# Altium schematic symbol library MB963.SCHLIB: 52 symbols
Pins are listed as number, name and electrical type; pins without a type are passive.

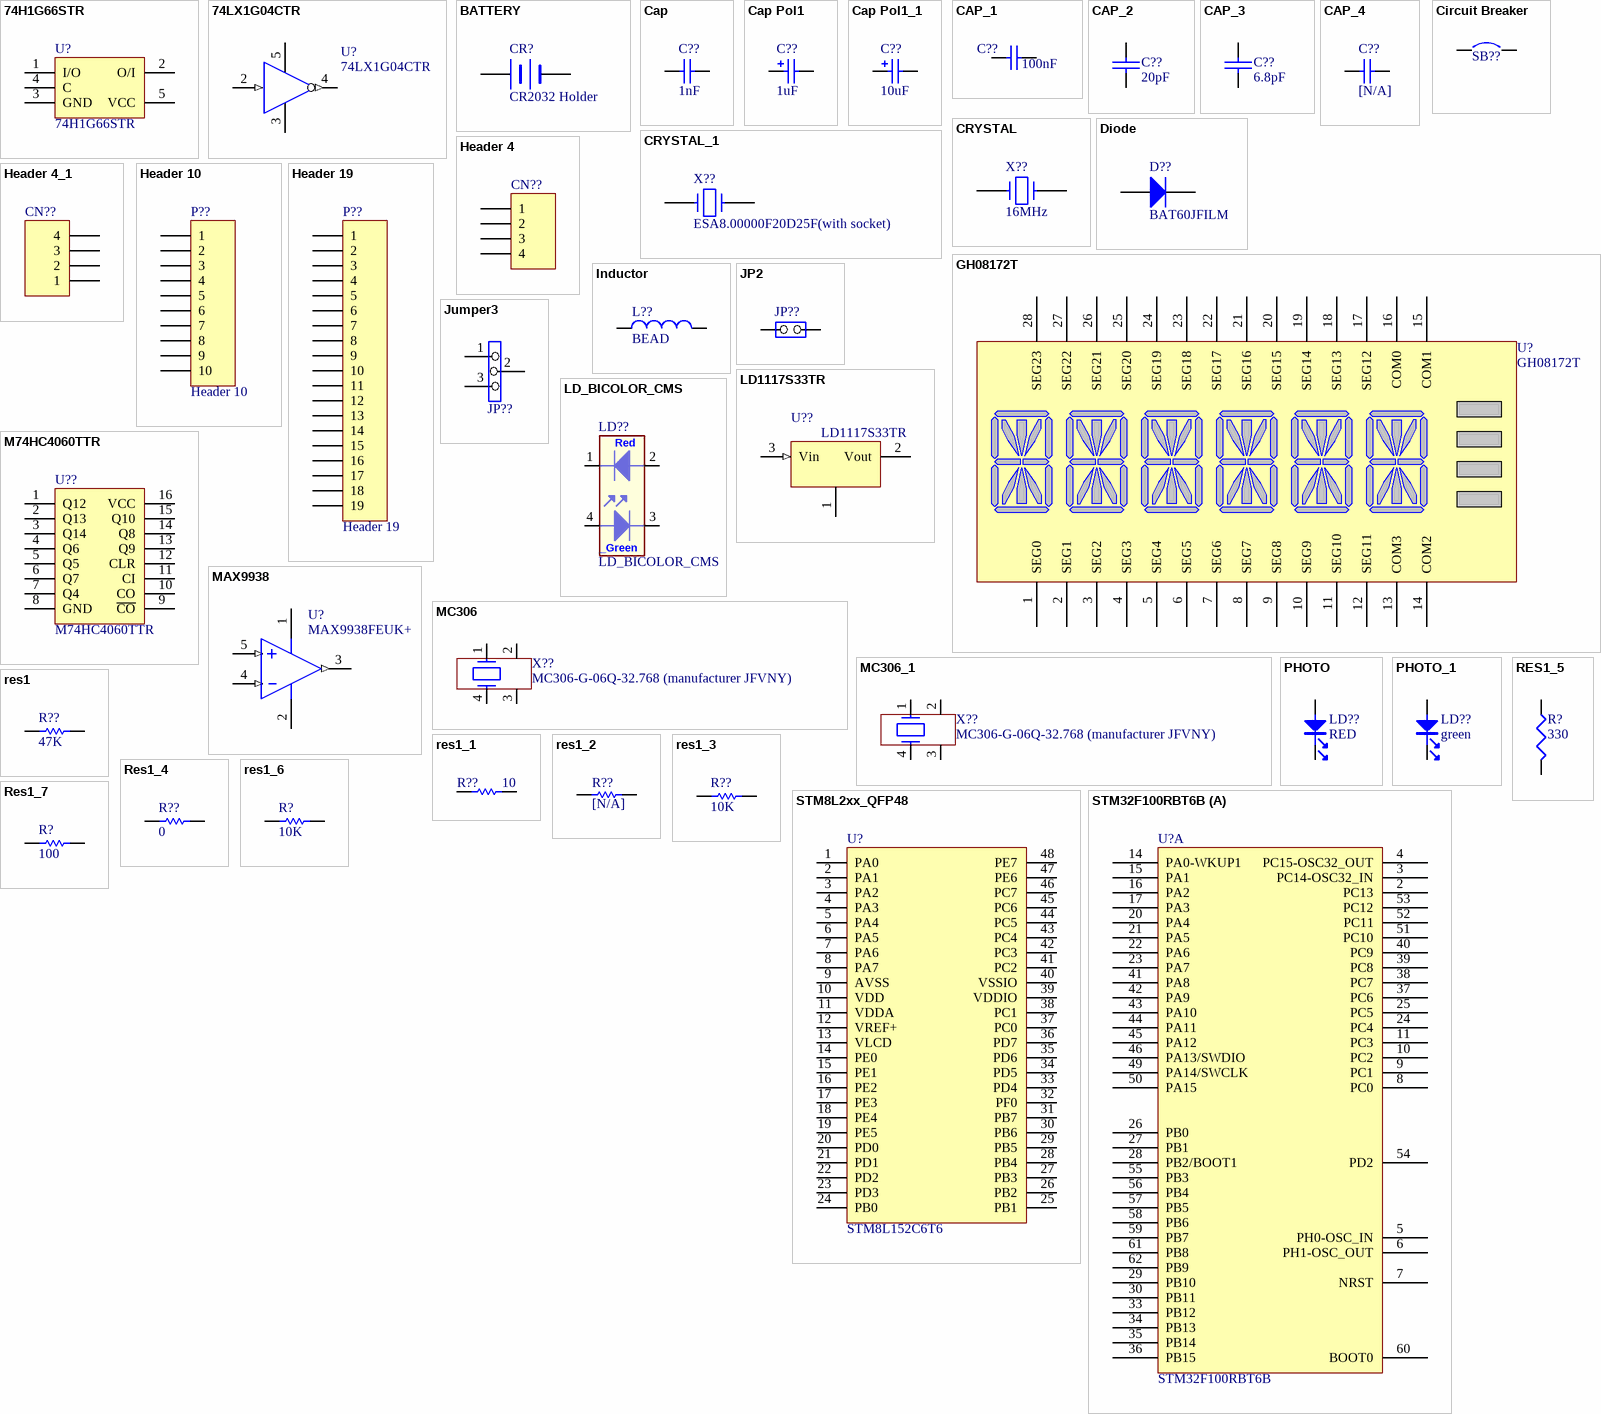
[diagram p0: symbols 74H1G66STR to STM32F100RBT6B]

## 74H1G66STR
designator U?
Provided: ST
footprint Model Name (Footprint not found)
footprint SOT-23-5L
pins: 1 I/O, 2 O/I, 3 GND, 4 C, 5 VCC

## 74LX1G04CTR
designator U?
Provided: ST
footprint Model Name (Footprint not found)
footprint SOT323-5L
pins: 1 NC hidden, 2 1A (in), 3 GND, 4 1Y (out), 5 VCC

## BATTERY
designator CR?, comment CR2032 Holder
Battery; Manufacturer_1: Lotes; Manufacturer_Part_1: KB7410AP2L; Description: CR2032 socket and battery, KB7410AP2L; Footprint: CR2032/SMT; Dristrib: http://www.bestbattery.co.kr/lotes/lotes.htm
footprint BATT-2.4V160mAH
footprint SOCKET BATTERY AAA DOUBLE
footprint SOCKET BATTERY CR2032 (TRAV)
footprint SOCKET BATTERY CR2032 CMS (1)
footprint SOCKET BATTERY CR2032 CMS (2)
footprint SOCKET BATTERY CR2032 CMS (Keystone)
footprint SOCKET BATTERY LR61/PP3/9V
footprint SOCKET BATTERY LR61/PP3/9V (2)
footprint SOCKET BATTERY AA SIMPLE
pins: 1 +, 2 -
2 alternate drawings of the same symbol

## Cap
designator C??, comment 1nF
Capacitor; Published: 8-Jun-2000; Revision: July-2002: Re-released for DXP Platform.; Publisher: Altium Limited; Value: 1nF
simulation model CAP (Capacitor)
signal-integrity model Cap
footprint 0603 (Footprint not found)
footprint 0603C
footprint 0402C
pins: 1, 2

## Cap Pol1
designator C??, comment 1uF
Polarized Capacitor (Radial); Published: 8-Jun-2000; Revision: July-2002: Re-released for DXP Platform.; Publisher: Altium Limited; Value: 1uF
simulation model CAP (Capacitor)
signal-integrity model C200M
footprint 3528 (Footprint not found)
footprint TAN-B
footprint 0603C
pins: 1, 2

## Cap Pol1_1
designator C??, comment 10uF
Polarized Capacitor (Radial); Published: 8-Jun-2000; Revision: July-2002: Re-released for DXP Platform.; Publisher: Altium Limited; Value: 10uF
simulation model CAP (Capacitor)
signal-integrity model C200M
footprint 3528 (Footprint not found)
footprint TAN-B
footprint CASE-A
pins: 1, 2

## CAP_1
designator C??, comment 100nF
Capacitor; Value: 100pF; Published: 8-Jun-2000; Revision: July-2002: Re-released for DXP Platform.; Publisher: Altium Limited
footprint RAD-0.3 (Capacitor; 2 Leads)
simulation model CAP (Capacitor)
signal-integrity model Cap
footprint CAPR5.08-7.8X3.2
footprint CAPR2.54-5.1X3.2
footprint 0603
footprint 0603P
footprint 0603C
footprint 0402C
pins: 1, 2

## CAP_2
designator C??, comment 20pF
Capacitor
footprint 0603 (Footprint not found)
footprint 0603C
pins: 1, 2
2 alternate drawings of the same symbol

## CAP_3
designator C??, comment 6.8pF
Capacitor
footprint 0603 (Footprint not found)
footprint 0603C
pins: 1, 2

## CAP_4
designator C??, comment [N/A]
Capacitor; Value: 100pF; Fitted: NO; Published: 8-Jun-2000; Revision: July-2002: Re-released for DXP Platform.; Publisher: Altium Limited
footprint RAD-0.3 (Capacitor; 2 Leads)
simulation model CAP (Capacitor)
signal-integrity model Cap
footprint CAPR5.08-7.8X3.2
footprint CAPR2.54-5.1X3.2
footprint 0603C
pins: 1, 2

## Circuit Breaker
designator SB??  (value not drawn)
Solder: YES; Published: 24-Mar-1999; Revision: July-2002: Re-released for DXP Platform.; Publisher: Altium Limited
footprint SPST-2 (Circuit Breaker; 2 Leads)
footprint JP2_SMD
pins: 1, 2

## CRYSTAL
designator X??, comment 16MHz
Crystal; Fitted: NO
footprint XTAL1 (Footprint not found)
footprint XTAL_SOCKET
pins: 1, 2
2 alternate drawings of the same symbol

## CRYSTAL_1
designator X??, comment ESA8.00000F20D25F(with socket)
Crystal
footprint XTAL1 (Footprint not found)
footprint HC-49AAAAA
pins: 1, 2
2 alternate drawings of the same symbol

## Diode
designator D??, comment BAT60JFILM
Default Diode; Code - JEDEC: DO-214-AB; Provided: ST; Published: 8-Jun-2000; Revision: July-2002: Re-released for DXP Platform.; Publisher: Altium Limited
footprint DSO-C2/X3.3 (DO-214-AB/SMC; 2 C-Bend Leads; Body 7.9 x 5.9 mm, inc. leads (LxW))
simulation model DIODE (Diode)
signal-integrity model Diode
footprint SOD323/A
pins: 1 A, 2 K

## GH08172T
designator U?
footprint DIP28 (Footprint not found)
pins: 1 SEG0, 2 SEG1, 3 SEG2, 4 SEG3, 5 SEG4, 6 SEG5, 7 SEG6, 8 SEG7, 9 SEG8, 10 SEG9, 11 SEG10, 12 SEG11, 13 COM3, 14 COM2, 15 COM1, 16 COM0, 17 SEG12, 18 SEG13, 19 SEG14, 20 SEG15, 21 SEG16, 22 SEG17, 23 SEG18, 24 SEG19, 25 SEG20, 26 SEG21, 27 SEG22, 28 SEG23

## Header 4
designator CN??  (value not drawn)
Header, 4-Pin; Revision: 17-Jul-2002: Re-released for DXP Platform.; Publisher: Altium Limited
signal-integrity model Connector
footprint Header 4 (Footprint not found)
pins: 1, 2, 3, 4

## Header 4_1
designator CN??, comment Header 4  (value not drawn)
Header, 4-Pin; Revision: 17-Jul-2002: Re-released for DXP Platform.; Publisher: Altium Limited
signal-integrity model Connector
footprint Header 4 (Footprint not found)
pins: 1, 2, 3, 4

## Header 10
designator P??
Header, 10-Pin; LatestRevisionDate: 17-Jul-2002; LatestRevisionNote: Re-released for DXP Platform.; Publisher: Altium Limited
footprint HDR1X10 (Connector; Header; 10 Position)
signal-integrity model Connector
pins: 1, 2, 3, 4, 5, 6, 7, 8, 9, 10

## Header 19
designator P??
Header, 19-Pin; LatestRevisionDate: 17-Jul-2002; LatestRevisionNote: Re-released for DXP Platform.; Publisher: Altium Limited
footprint HDR1X19 (Connector; Header; 19 Position)
signal-integrity model Connector
pins: 1, 2, 3, 4, 5, 6, 7, 8, 9, 10, 11, 12, 13, 14, 15, 16, 17, 18, 19

## Inductor
designator L??, comment BEAD
Inductor; Value: 100uH; Published: 8-Jun-2000; Revision: July-2002: Re-released for DXP Platform.; Publisher: Altium Limited
footprint 0603 (Footprint not found)
footprint 0603L
pins: 1, 2

## JP2
designator JP??
footprint SIP2/2.54
pins: 1 COMMON, 2 NO

## Jumper3
designator JP??
footprint SIP3 (Footprint not found)
pins: 1, 2, 3

## LD1117S33TR
designator U??
Provided: ST
footprint SOT-223
pins: 1, 2 Vout (power), 3 Vin (in)
2 alternate drawings of the same symbol

## LD_BICOLOR_CMS
designator LD??
Bicolor Led; Manuf_Part_1: HSMF-A201-A00J1; Manuf_1: Avago Technologies; Ref St: xxxxxx; cap_dec: ----; Distrib: RADIOSPARES; Footprint: HSMF-A201; support: ----
footprint HSMF-A201 (Footprint not found)
pins: 1, 2, 3, 4
text: Red; _Green

## M74HC4060TTR
designator U??
Provided: ST
footprint TSSOP (Footprint not found)
footprint TSSOP16 (Footprint not found)
pins: 1 Q12, 2 Q13, 3 Q14, 4 Q6, 5 Q5, 6 Q7, 7 Q4, 8 GND, 9 ~{CO}, 10 CO, 11 CI, 12 CLR, 13 Q9, 14 Q8, 15 Q10, 16 VCC

## MAX9938
designator U?, comment MAX9938FEUK+
Precision Current-Sense Amplifier
footprint Model Name (Footprint not found)
footprint SOT-23-5L
pins: 1 GND (power), 2 GND (power), 3 OUT (out), 4 Vm (in), 5 Vp (in)

## MC306
designator X??, comment MC306-G-06Q-32.768 (manufacturer JFVNY)
footprint SM8 (Footprint not found)
pins: 1, 2, 3, 4

## MC306_1
designator X??, comment MC306-G-06Q-32.768 (manufacturer JFVNY)
footprint MC306-CRYSTAL
pins: 1, 2, 3, 4

## PHOTO
designator LD??, comment RED
footprint D0603
footprint 0603D
pins: 1, 2
2 alternate drawings of the same symbol

## PHOTO_1
designator LD??, comment green
footprint D0603
footprint LED0603
pins: 1, 2
2 alternate drawings of the same symbol

## res1
designator R??, comment 47K
Resistor; Published: 8-Jun-2000; Revision: July-2002: Re-released for DXP Platform.; Publisher: Altium Limited; Value: 47K
footprint AXIAL-0.3 (Resistor; 2 Leads)
footprint 0805
footprint 0603
footprint 0402R
pins: 1, 2
1 alternate drawing of the same symbol

## res1_1
designator R??, comment 10
Resistor; Published: 8-Jun-2000; Revision: July-2002: Re-released for DXP Platform.; Publisher: Altium Limited; Value: 10
footprint AXIAL-0.3 (Resistor; 2 Leads)
footprint 0805
footprint 0603
footprint 0402R
footprint 0603R (Footprint not found)
pins: 1, 2
1 alternate drawing of the same symbol

## res1_2
designator R??, comment [N/A]
Resistor; Value: 1K; Fitted: NO; Published: 8-Jun-2000; Revision: July-2002: Re-released for DXP Platform.; Publisher: Altium Limited
footprint AXIAL-0.3 (Resistor; 2 Leads)
simulation model RESISTOR (Resistor)
signal-integrity model Res
footprint 0603 (Footprint not found)
footprint 0603R
pins: 1, 2
1 alternate drawing of the same symbol

## res1_3
designator R??, comment 10K
Resistor; Value: 1K; Published: 8-Jun-2000; Revision: July-2002: Re-released for DXP Platform.; Publisher: Altium Limited
footprint AXIAL-0.3 (Resistor; 2 Leads)
simulation model RESISTOR (Resistor)
signal-integrity model Res
footprint 0603
footprint 0603R
footprint 0402R
pins: 1, 2
1 alternate drawing of the same symbol

## Res1_4
designator R??, comment 0
Resistor; Value: 1K; Published: 8-Jun-2000; Revision: July-2002: Re-released for DXP Platform.; Publisher: Altium Limited
footprint AXIAL-0.3 (Resistor; 2 Leads)
simulation model RESISTOR (Resistor)
signal-integrity model Res
footprint 0603
footprint 0805
footprint 0603R
pins: 1, 2
1 alternate drawing of the same symbol

## RES1_5
designator R?, comment 330
footprint 0603
footprint 0402R
footprint 0603R
pins: 1, 2

## res1_6
designator R?, comment 10K
Resistor; Value: 1K; Published: 8-Jun-2000; Revision: July-2002: Re-released for DXP Platform.; Publisher: Altium Limited
footprint AXIAL-0.3 (Resistor; 2 Leads)
simulation model RESISTOR (Resistor)
signal-integrity model Res
footprint 0603R
pins: 1, 2
1 alternate drawing of the same symbol

## Res1_7
designator R?, comment 100
Resistor; Value: 1K; Published: 8-Jun-2000; Revision: July-2002: Re-released for DXP Platform.; Publisher: Altium Limited
footprint AXIAL-0.3 (Resistor; 2 Leads)
simulation model RESISTOR (Resistor)
signal-integrity model Res
footprint 0805
footprint 0603R
pins: 1, 2
1 alternate drawing of the same symbol

## STM8L2xx_QFP48
designator U?, comment STM8L152C6T6
Provided: ST
footprint QFP48 (Footprint not found)
footprint LQFP48
pins: 1 PA0, 2 PA1, 3 PA2, 4 PA3, 5 PA4, 6 PA5, 7 PA6, 8 PA7, 9 AVSS, 10 VDD, 11 VDDA, 12 VREF+, 13 VLCD, 14 PE0, 15 PE1, 16 PE2, 17 PE3, 18 PE4, 19 PE5, 20 PD0, 21 PD1, 22 PD2, 23 PD3, 24 PB0, 25 PB1, 26 PB2, 27 PB3, 28 PB4, 29 PB5, 30 PB6, 31 PB7, 32 PF0, 33 PD4, 34 PD5, 35 PD6, 36 PD7, 37 PC0, 38 PC1, 39 VDDIO, 40 VSSIO, 41 PC2, 42 PC3, 43 PC4, 44 PC5, 45 PC6, 46 PC7, 47 PE6, 48 PE7

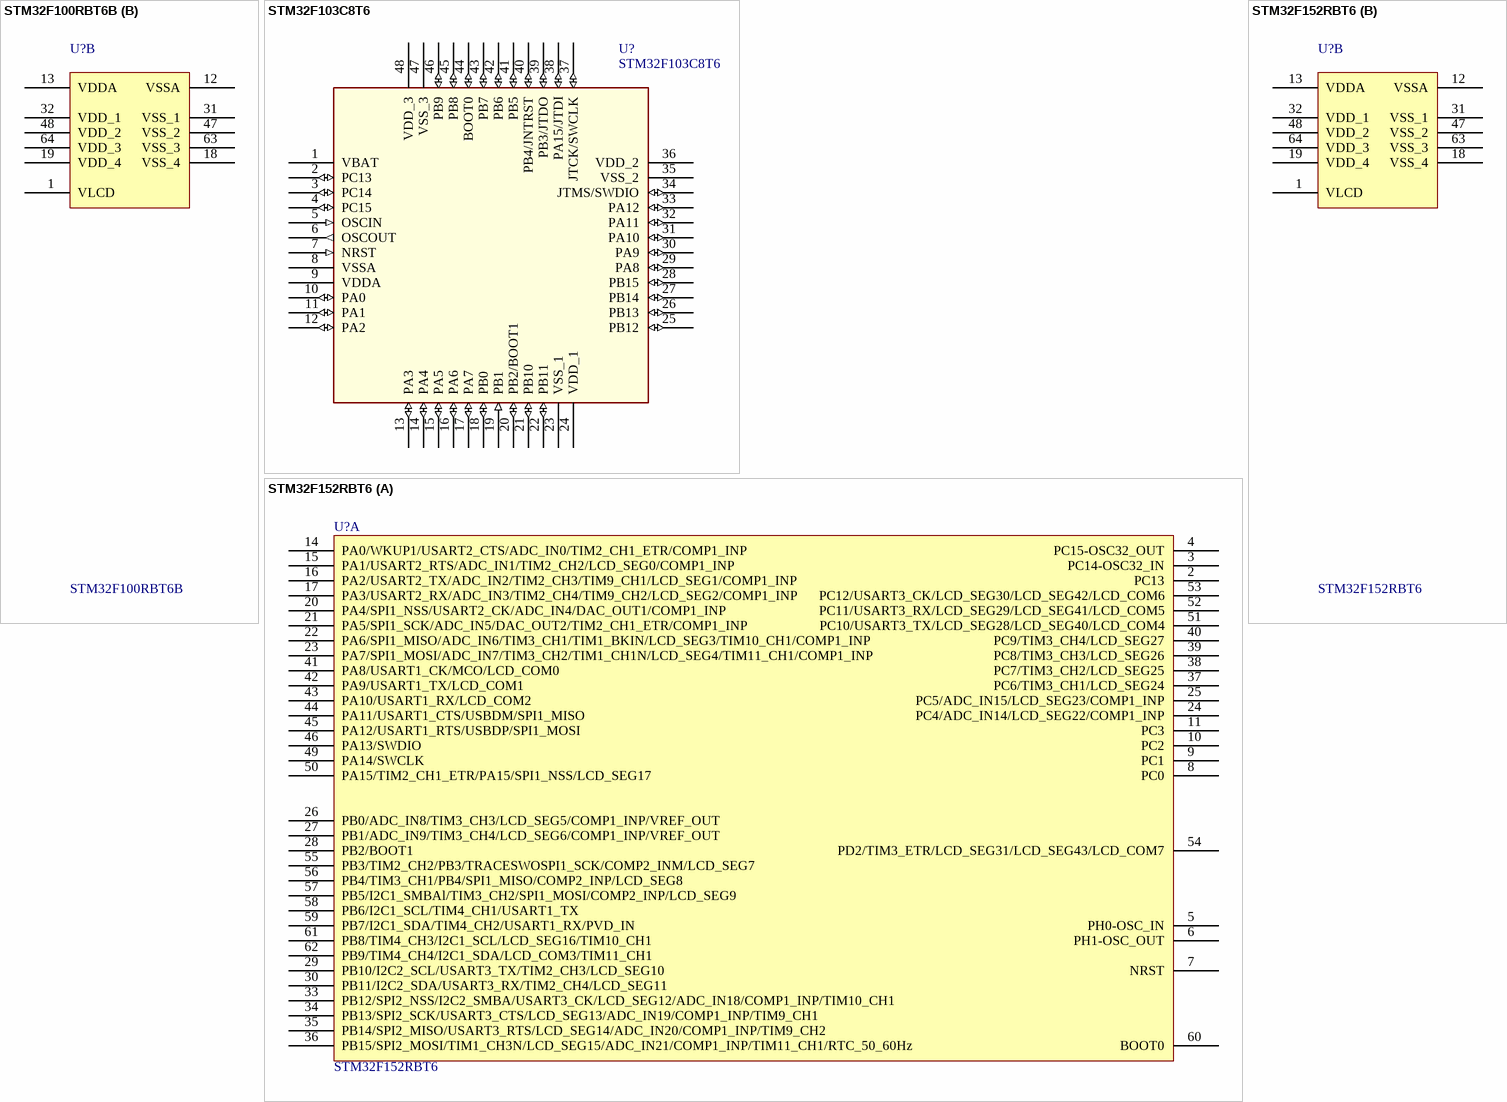
[diagram p1: symbols STM32F100RBT6B to STM32F152RBT6]

## STM32F100RBT6B
designator U?
STM32-SCORPIO-QFP64
footprint QFP64
footprint TQFP64_TOOL (Footprint not found)
part A pins: 2 PC13, 3 PC14-OSC32_IN, 4 PC15-OSC32_OUT, 5 PH0-OSC_IN, 6 PH1-OSC_OUT, 7 NRST, 8 PC0, 9 PC1, 10 PC2, 11 PC3, 14 PA0-WKUP1, 15 PA1, 16 PA2, 17 PA3, 20 PA4, 21 PA5, 22 PA6, 23 PA7, 24 PC4, 25 PC5, 26 PB0, 27 PB1, 28 PB2/BOOT1, 29 PB10, 30 PB11, 33 PB12, 34 PB13, 35 PB14, 36 PB15, 37 PC6, 38 PC7, 39 PC8, 40 PC9, 41 PA8, 42 PA9, 43 PA10, 44 PA11, 45 PA12, 46 PA13/SWDIO, 49 PA14/SWCLK, 50 PA15, 51 PC10, 52 PC11, 53 PC12, 54 PD2, 55 PB3, 56 PB4, 57 PB5, 58 PB6, 59 PB7, 60 BOOT0, 61 PB8, 62 PB9
part B pins: 1 VLCD, 12 VSSA, 13 VDDA, 18 VSS_4, 19 VDD_4, 31 VSS_1, 32 VDD_1, 47 VSS_2, 48 VDD_2, 63 VSS_3, 64 VDD_3

## STM32F103C8T6
designator U?
Manuf_1: STM; Ref St: 9175981; Provided: ST; Footprint: QFP48 7X7; Manuf_Part_1: STM32F103C8T6
footprint QFP48 7X7 (Footprint not found)
pins: 1 VBAT (power), 2 PC13 (io), 3 PC14 (io), 4 PC15 (io), 5 OSCIN (in), 6 OSCOUT (out), 7 NRST (in), 8 VSSA (power), 9 VDDA (power), 10 PA0 (io), 11 PA1 (io), 12 PA2 (io), 13 PA3 (io), 14 PA4 (io), 15 PA5 (io), 16 PA6 (io), 17 PA7 (io), 18 PB0 (io), 19 PB1 (in), 20 PB2/BOOT1 (io), 21 PB10 (io), 22 PB11 (io), 23 VSS_1 (power), 24 VDD_1 (power), 25 PB12 (io), 26 PB13 (io), 27 PB14 (io), 28 PB15 (io), 29 PA8 (io), 30 PA9 (io), 31 PA10 (io), 32 PA11 (io), 33 PA12 (io), 34 JTMS/SWDIO (io), 35 VSS_2 (power), 36 VDD_2 (power), 37 JTCK/SWCLK (io), 38 PA15/JTDI (io), 39 PB3/JTDO (io), 40 PB4/JNTRST (io), 41 PB5 (io), 42 PB6 (io), 43 PB7 (io), 44 BOOT0 (io), 45 PB8 (io), 46 PB9 (io), 47 VSS_3 (power), 48 VDD_3 (power)

## STM32F152RBT6
designator U?
Ultralow power ARM-based 32-bit MCU (STM32-SCORPIO); Manufaturer_1: STM; Provided: ST; Order: STM32F152RBT6; Manufacturer_Part_1: STM32F152RBT6
footprint QFP64
footprint TQFP64_TOOL (Footprint not found)
part A pins: 2 PC13, 3 PC14-OSC32_IN, 4 PC15-OSC32_OUT, 5 PH0-OSC_IN, 6 PH1-OSC_OUT, 7 NRST, 8 PC0, 9 PC1, 10 PC2, 11 PC3, 14 PA0/WKUP1/USART2_CTS/ADC_IN0/TIM2_CH1_ETR/COMP1_INP, 15 PA1/USART2_RTS/ADC_IN1/TIM2_CH2/LCD_SEG0/COMP1_INP, 16 PA2/USART2_TX/ADC_IN2/TIM2_CH3/TIM9_CH1/LCD_SEG1/COMP1_INP, 17 PA3/USART2_RX/ADC_IN3/TIM2_CH4/TIM9_CH2/LCD_SEG2/COMP1_INP, 20 PA4/SPI1_NSS/USART2_CK/ADC_IN4/DAC_OUT1/COMP1_INP, 21 PA5/SPI1_SCK/ADC_IN5/DAC_OUT2/TIM2_CH1_ETR/COMP1_INP, 22 PA6/SPI1_MISO/ADC_IN6/TIM3_CH1/TIM1_BKIN/LCD_SEG3/TIM10_CH1/COMP1_INP, 23 PA7/SPI1_MOSI/ADC_IN7/TIM3_CH2/TIM1_CH1N/LCD_SEG4/TIM11_CH1/COMP1_INP, 24 PC4/ADC_IN14/LCD_SEG22/COMP1_INP, 25 PC5/ADC_IN15/LCD_SEG23/COMP1_INP, 26 PB0/ADC_IN8/TIM3_CH3/LCD_SEG5/COMP1_INP/VREF_OUT, 27 PB1/ADC_IN9/TIM3_CH4/LCD_SEG6/COMP1_INP/VREF_OUT, 28 PB2/BOOT1, 29 PB10/I2C2_SCL/USART3_TX/TIM2_CH3/LCD_SEG10, 30 PB11/I2C2_SDA/USART3_RX/TIM2_CH4/LCD_SEG11, 33 PB12/SPI2_NSS/I2C2_SMBA/USART3_CK/LCD_SEG12/ADC_IN18/COMP1_INP/TIM10_CH1, 34 PB13/SPI2_SCK/USART3_CTS/LCD_SEG13/ADC_IN19/COMP1_INP/TIM9_CH1, 35 PB14/SPI2_MISO/USART3_RTS/LCD_SEG14/ADC_IN20/COMP1_INP/TIM9_CH2, 36 PB15/SPI2_MOSI/TIM1_CH3N/LCD_SEG15/ADC_IN21/COMP1_INP/TIM11_CH1/RTC_50_60Hz, 37 PC6/TIM3_CH1/LCD_SEG24, 38 PC7/TIM3_CH2/LCD_SEG25, 39 PC8/TIM3_CH3/LCD_SEG26, 40 PC9/TIM3_CH4/LCD_SEG27, 41 PA8/USART1_CK/MCO/LCD_COM0, 42 PA9/USART1_TX/LCD_COM1, 43 PA10/USART1_RX/LCD_COM2, 44 PA11/USART1_CTS/USBDM/SPI1_MISO, 45 PA12/USART1_RTS/USBDP/SPI1_MOSI, 46 PA13/SWDIO, 49 PA14/SWCLK, 50 PA15/TIM2_CH1_ETR/PA15/SPI1_NSS/LCD_SEG17, 51 PC10/USART3_TX/LCD_SEG28/LCD_SEG40/LCD_COM4, 52 PC11/USART3_RX/LCD_SEG29/LCD_SEG41/LCD_COM5, 53 PC12/USART3_CK/LCD_SEG30/LCD_SEG42/LCD_COM6, 54 PD2/TIM3_ETR/LCD_SEG31/LCD_SEG43/LCD_COM7, 55 PB3/TIM2_CH2/PB3/TRACESWOSPI1_SCK/COMP2_INM/LCD_SEG7, 56 PB4/TIM3_CH1/PB4/SPI1_MISO/COMP2_INP/LCD_SEG8, 57 PB5/I2C1_SMBAl/TIM3_CH2/SPI1_MOSI/COMP2_INP/LCD_SEG9, 58 PB6/I2C1_SCL/TIM4_CH1/USART1_TX, 59 PB7/I2C1_SDA/TIM4_CH2/USART1_RX/PVD_IN, 60 BOOT0, 61 PB8/TIM4_CH3/I2C1_SCL/LCD_SEG16/TIM10_CH1, 62 PB9/TIM4_CH4/I2C1_SDA/LCD_COM3/TIM11_CH1
part B pins: 1 VLCD, 12 VSSA, 13 VDDA, 18 VSS_4, 19 VDD_4, 31 VSS_1, 32 VDD_1, 47 VSS_2, 48 VDD_2, 63 VSS_3, 64 VDD_3

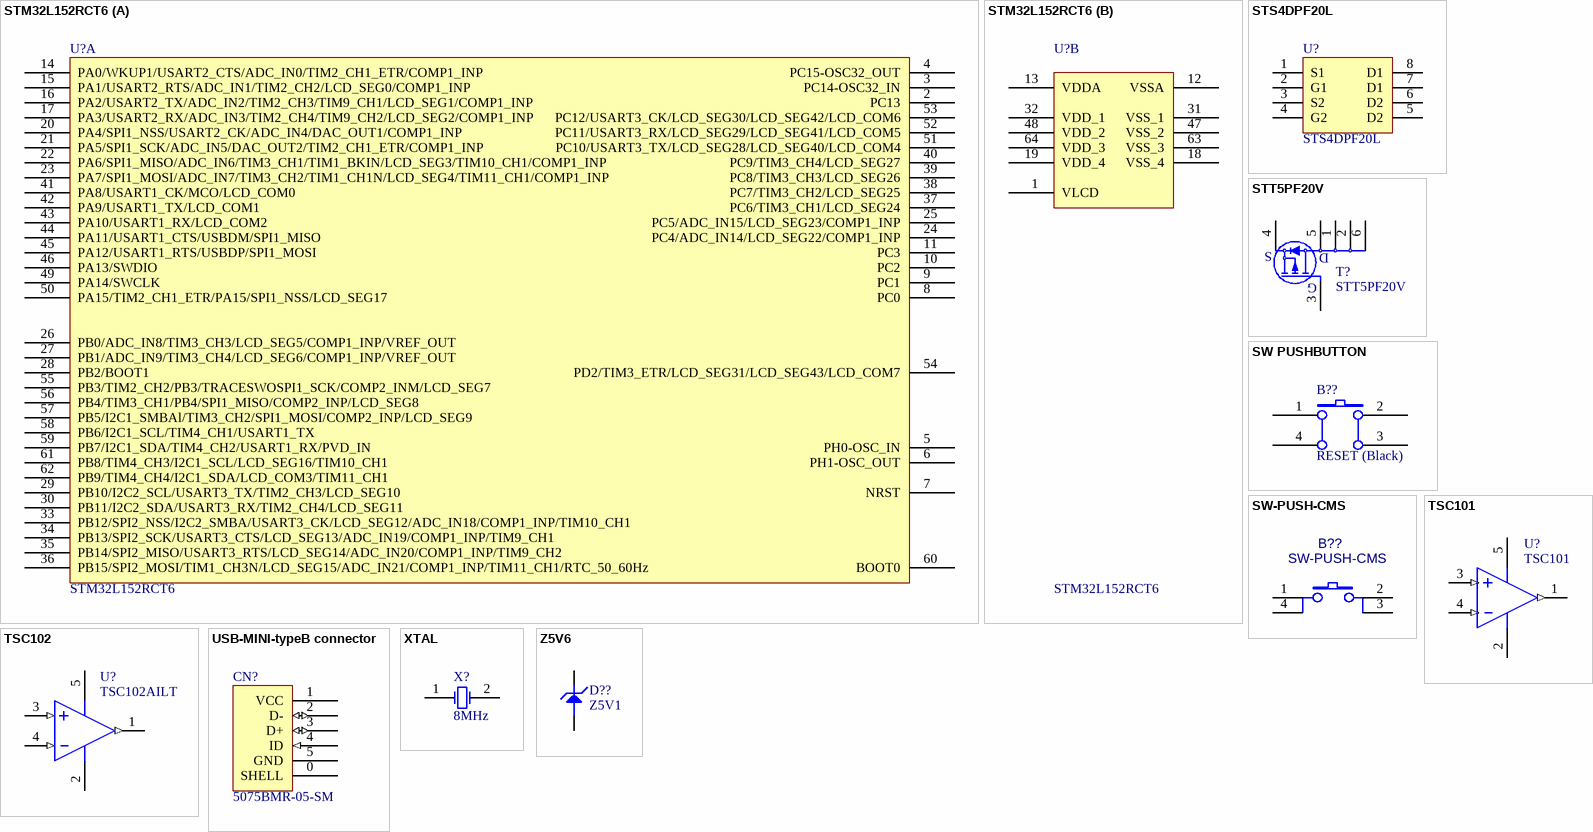
[diagram p2: symbols STM32L152RCT6 to Z5V6]

## STM32L152RCT6
designator U?
32-bit 256K MCU (SCORPIO2 Shrink); Manufaturer_1: STM; Provided: ST; X3 code: 9175126; ECCN US: 3A991A2; ECCN EU: NEC; Order: STM32L152RCT6; Manufacturer_Part_1: STM32L152RCT6
footprint QFP64
footprint TQFP64_TOOL (Footprint not found)
part A pins: 2 PC13, 3 PC14-OSC32_IN, 4 PC15-OSC32_OUT, 5 PH0-OSC_IN, 6 PH1-OSC_OUT, 7 NRST, 8 PC0, 9 PC1, 10 PC2, 11 PC3, 14 PA0/WKUP1/USART2_CTS/ADC_IN0/TIM2_CH1_ETR/COMP1_INP, 15 PA1/USART2_RTS/ADC_IN1/TIM2_CH2/LCD_SEG0/COMP1_INP, 16 PA2/USART2_TX/ADC_IN2/TIM2_CH3/TIM9_CH1/LCD_SEG1/COMP1_INP, 17 PA3/USART2_RX/ADC_IN3/TIM2_CH4/TIM9_CH2/LCD_SEG2/COMP1_INP, 20 PA4/SPI1_NSS/USART2_CK/ADC_IN4/DAC_OUT1/COMP1_INP, 21 PA5/SPI1_SCK/ADC_IN5/DAC_OUT2/TIM2_CH1_ETR/COMP1_INP, 22 PA6/SPI1_MISO/ADC_IN6/TIM3_CH1/TIM1_BKIN/LCD_SEG3/TIM10_CH1/COMP1_INP, 23 PA7/SPI1_MOSI/ADC_IN7/TIM3_CH2/TIM1_CH1N/LCD_SEG4/TIM11_CH1/COMP1_INP, 24 PC4/ADC_IN14/LCD_SEG22/COMP1_INP, 25 PC5/ADC_IN15/LCD_SEG23/COMP1_INP, 26 PB0/ADC_IN8/TIM3_CH3/LCD_SEG5/COMP1_INP/VREF_OUT, 27 PB1/ADC_IN9/TIM3_CH4/LCD_SEG6/COMP1_INP/VREF_OUT, 28 PB2/BOOT1, 29 PB10/I2C2_SCL/USART3_TX/TIM2_CH3/LCD_SEG10, 30 PB11/I2C2_SDA/USART3_RX/TIM2_CH4/LCD_SEG11, 33 PB12/SPI2_NSS/I2C2_SMBA/USART3_CK/LCD_SEG12/ADC_IN18/COMP1_INP/TIM10_CH1, 34 PB13/SPI2_SCK/USART3_CTS/LCD_SEG13/ADC_IN19/COMP1_INP/TIM9_CH1, 35 PB14/SPI2_MISO/USART3_RTS/LCD_SEG14/ADC_IN20/COMP1_INP/TIM9_CH2, 36 PB15/SPI2_MOSI/TIM1_CH3N/LCD_SEG15/ADC_IN21/COMP1_INP/TIM11_CH1/RTC_50_60Hz, 37 PC6/TIM3_CH1/LCD_SEG24, 38 PC7/TIM3_CH2/LCD_SEG25, 39 PC8/TIM3_CH3/LCD_SEG26, 40 PC9/TIM3_CH4/LCD_SEG27, 41 PA8/USART1_CK/MCO/LCD_COM0, 42 PA9/USART1_TX/LCD_COM1, 43 PA10/USART1_RX/LCD_COM2, 44 PA11/USART1_CTS/USBDM/SPI1_MISO, 45 PA12/USART1_RTS/USBDP/SPI1_MOSI, 46 PA13/SWDIO, 49 PA14/SWCLK, 50 PA15/TIM2_CH1_ETR/PA15/SPI1_NSS/LCD_SEG17, 51 PC10/USART3_TX/LCD_SEG28/LCD_SEG40/LCD_COM4, 52 PC11/USART3_RX/LCD_SEG29/LCD_SEG41/LCD_COM5, 53 PC12/USART3_CK/LCD_SEG30/LCD_SEG42/LCD_COM6, 54 PD2/TIM3_ETR/LCD_SEG31/LCD_SEG43/LCD_COM7, 55 PB3/TIM2_CH2/PB3/TRACESWOSPI1_SCK/COMP2_INM/LCD_SEG7, 56 PB4/TIM3_CH1/PB4/SPI1_MISO/COMP2_INP/LCD_SEG8, 57 PB5/I2C1_SMBAl/TIM3_CH2/SPI1_MOSI/COMP2_INP/LCD_SEG9, 58 PB6/I2C1_SCL/TIM4_CH1/USART1_TX, 59 PB7/I2C1_SDA/TIM4_CH2/USART1_RX/PVD_IN, 60 BOOT0, 61 PB8/TIM4_CH3/I2C1_SCL/LCD_SEG16/TIM10_CH1, 62 PB9/TIM4_CH4/I2C1_SDA/LCD_COM3/TIM11_CH1
part B pins: 1 VLCD, 12 VSSA, 13 VDDA, 18 VSS_4, 19 VDD_4, 31 VSS_1, 32 VDD_1, 47 VSS_2, 48 VDD_2, 63 VSS_3, 64 VDD_3

## STS4DPF20L
designator U?
STS4DPF20L SO8 package; Manuf_1: STM; LatestRevisionDate: 17-Jul-2002; LatestRevisionNote: Re-released for DXP Platform.; Publisher: Altium Limited; Value: STS4DPF20L; Manuf_Part_1: STS4DPF20L; Order: STS4DPF20L
footprint SO8_M (Footprint not found)
pins: 1 S1, 2 G1, 3 S2, 4 G2, 5 D2, 6 D2, 7 D1, 8 D1

## STT5PF20V
designator T?
Provided: ST
footprint Model Name (Footprint not found)
footprint SOT-23-6L
pins: 1 D, 2 D, 3 G, 4 S, 5 D, 6 D

## SW PUSHBUTTON
designator B??, comment RESET (Black)
SE PUSHBUTTON
footprint PB (Footprint not found)
footprint PB10
pins: 1 A0, 2 B0, 3 B1, 4 A1

## SW-PUSH-CMS
designator B??
Non-Open Push-Button 0.1A 24V; Manuf_1: FARNELL; Manuf_Part_1: 535-930; Ref St: 9180120; cap_dec: ---; Footprint: BP1CMS
footprint BP1CMS (Footprint not found)
pins: 1, 2, 3, 4

## TSC101
designator U?
High side current sense amplifier
footprint Model Name (Footprint not found)
footprint SOT-23-5L
pins: 1 OUT (out), 2 GND (power), 3 Vp (in), 4 Vm (in), 5 VDD (power)

## TSC102
designator U?, comment TSC102AILT
footprint Model Name (Footprint not found)
footprint SOT-23-5L
pins: 1 OUT (out), 2 GND (power), 3 Vp (in), 4 Vm (in), 5 VDD (power)

## USB-MINI-typeB connector
designator CN?, comment 5075BMR-05-SM
footprint USB-MINI-B-SMD
footprint USB-B
pins: 0 SHELL (power), 1 VCC (power), 2 D- (io), 3 D+ (io), 4 ID (in), 5 GND (power)
2 alternate drawings of the same symbol

## XTAL
designator X?, comment 8MHz
Crystal Oscillator; Published: 8-Jun-2000; LatestRevisionDate: 17-Jul-2002; LatestRevisionNote: Re-released for DXP Platform.; PackageReference: R38; Publisher: Altium Limited
footprint R38
footprint XTAL1
pins: 1 OSC1, 2 OSC2
2 alternate drawings of the same symbol

## Z5V6
designator D??, comment Z5V1
footprint SOT-23
pins: 2, 3